# Altium footprint library CAPPRD1000W190D2200H3200.PcbLib: 1 footprints
Each footprint in its own frame and in the unit in brackets; x right, y up, seen from the top. Pads: shape width x height; smd on the part's side, far side on the other; paste and mask are expansions set on the pad; w line width, h text height; cw(c..) or ccw(c..) is an arc to the next point about the centre after c.
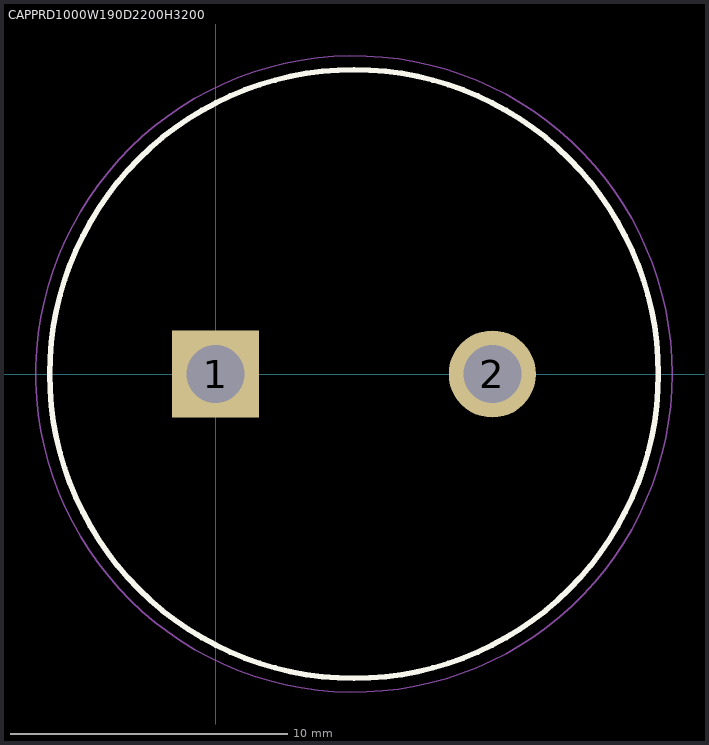
[diagram p0: the footprint, top view; thin cyan lines are the x and y axes]

## CAPPRD1000W190D2200H3200 [mm]
pads (2):
  rect 3.15x3.15 / inner round 3.15 / far side rect 3.15x3.15 hole 2.1: 1(0,0)
  round 3.15 hole 2.1: 2(10,0)
Top Overlay:
  circle w0.2: c5,0 r11
Mechanical 15:
  circle w0.1: c5,0 r11
Mechanical 20:
  circle w0.05: c5,0 r11.5
3D body "MAL205859471E3.stp": height 5.8, standoff -4.65, extent -10,-3.376 10,3.376